# Altium schematic symbol library INA155U.SchLib: 2 symbols
Pins are listed as number, name and electrical type; pins without a type are passive.

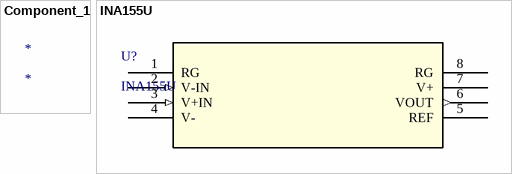
[diagram p0: symbols Component_1 to INA155U]

## Component_1
designator *

## INA155U
designator U?
No Description Available; Mfr_Name: Texas Instruments; Copyright: Copyright (C) 2022 Ultra Librarian. All rights reserved.; Manufacturer_Part_Number: INA155U; Digi-Key_Part_Number_1: INA155U-ND; Digi-Key_Part_Number_2: 2156-INA155U-ND; RefDes: RefDes; Type: DEV
footprint D8
pins: 1 RG, 2 V-IN (in), 3 V+IN (in), 4 V- (power), 5 REF, 6 VOUT (out), 7 V+ (power), 8 RG